# EAGLE library part STSPIN220 (library pimoroni-ics)
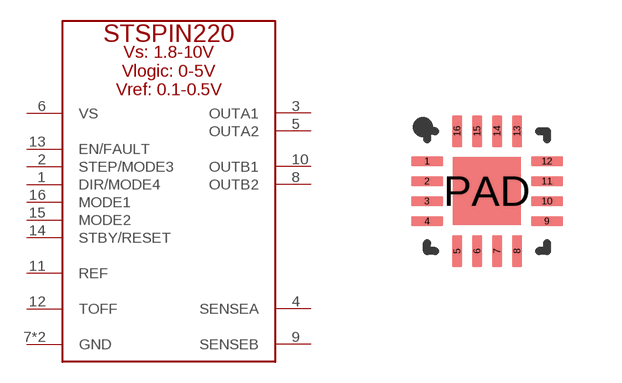
[diagram p142: symbol with the pads of QFN-16; footprint QFN-16]

Designator prefix U

## STSPIN220  [QFN-16]
1  DIR/MODE4
2  STEP/MODE3
3  OUTA1
4  SENSEA
5  OUTA2
6  VS
7  GND
8  OUTB2
9  SENSEB
10  OUTB1
11  REF
12  TOFF
13  EN/FAULT
14  STBY/RESET
15  MODE2
16  MODE1
PAD  GND

## Footprint QFN-16 (pad centres in mm)
smd 0.8 x 0.25: 1 -1.5,0.75; 2 -1.5,0.25; 3 -1.5,-0.25; 4 -1.5,-0.75; 9 1.5,-0.75; 10 1.5,-0.25; 11 1.5,0.25; 12 1.5,0.75
smd 0.25 x 0.8: 5 -0.75,-1.5; 6 -0.25,-1.5; 7 0.25,-1.5; 8 0.75,-1.5; 13 0.75,1.5; 14 0.25,1.5; 15 -0.25,1.5; 16 -0.75,1.5
smd 1.7 x 1.7: PAD 0,0